# Altium schematic symbol library SN74HC193.SchLib: 1 symbol
Pins are listed as number, name and electrical type; pins without a type are passive.

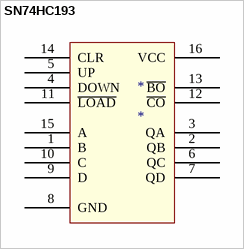
[diagram p0: symbol SN74HC193]

## SN74HC193
designator *
pins: 1 B, 2 QB, 3 QA, 4 DOWN, 5 UP, 6 QC, 7 QD, 8 GND (power), 9 D, 10 C, 11 ~{LOAD}, 12 ~{CO}, 13 ~{BO}, 14 CLR, 15 A, 16 VCC (power)